# Altium schematic symbol library ISSI.SchLib: 2 symbols
Pins are listed as number, name and electrical type; pins without a type are passive.

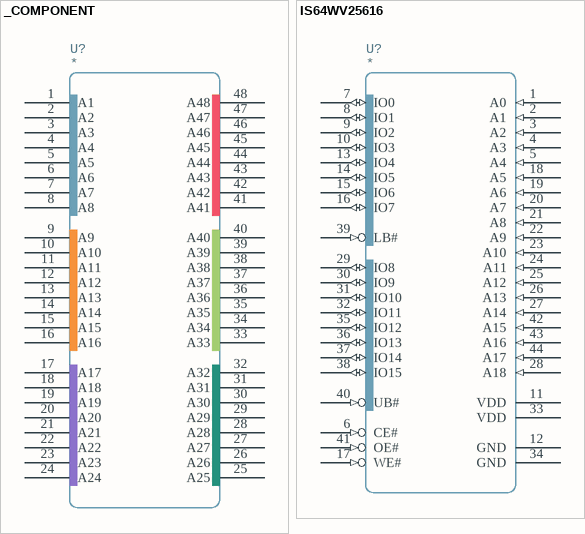
[diagram p0: symbols _COMPONENT to IS64WV25616]

## _COMPONENT
designator U?
pins: 1 A1, 2 A2, 3 A3, 4 A4, 5 A5, 6 A6, 7 A7, 8 A8, 9 A9, 10 A10, 11 A11, 12 A12, 13 A13, 14 A14, 15 A15, 16 A16, 17 A17, 18 A18, 19 A19, 20 A20, 21 A21, 22 A22, 23 A23, 24 A24, 25 A25, 26 A26, 27 A27, 28 A28, 29 A29, 30 A30, 31 A31, 32 A32, 33 A33, 34 A34, 35 A35, 36 A36, 37 A37, 38 A38, 39 A39, 40 A40, 41 A41, 42 A42, 43 A43, 44 A44, 45 A45, 46 A46, 47 A47, 48 A48

## IS64WV25616
designator U?
pins: 1 A0 (in), 2 A1 (in), 3 A2 (in), 4 A3 (in), 5 A4 (in), 6 CE# (in), 7 IO0 (io), 8 IO1 (io), 9 IO2 (io), 10 IO3 (io), 11 VDD, 12 GND, 13 IO4 (io), 14 IO5 (io), 15 IO6 (io), 16 IO7 (io), 17 WE# (in), 18 A5 (in), 19 A6 (in), 20 A7 (in), 21 A8 (in), 22 A9 (in), 23 A10 (in), 24 A11 (in), 25 A12 (in), 26 A13 (in), 27 A14 (in), 28 A18 (in), 29 IO8 (io), 30 IO9 (io), 31 IO10 (io), 32 IO11 (io), 33 VDD, 34 GND, 35 IO12 (io), 36 IO13 (io), 37 IO14 (io), 38 IO15 (io), 39 LB# (in), 40 UB# (in), 41 OE# (in), 42 A15 (in), 43 A16 (in), 44 A17 (in)